# Altium footprint library GPSDevice.PcbLib: 30 footprints (part 1 of 2)
Each footprint in its own frame and in the unit in brackets; x right, y up, seen from the top. Pads: shape width x height; smd on the part's side, far side on the other; paste and mask are expansions set on the pad; w line width, h text height; cw(c..) or ccw(c..) is an arc to the next point about the centre after c.
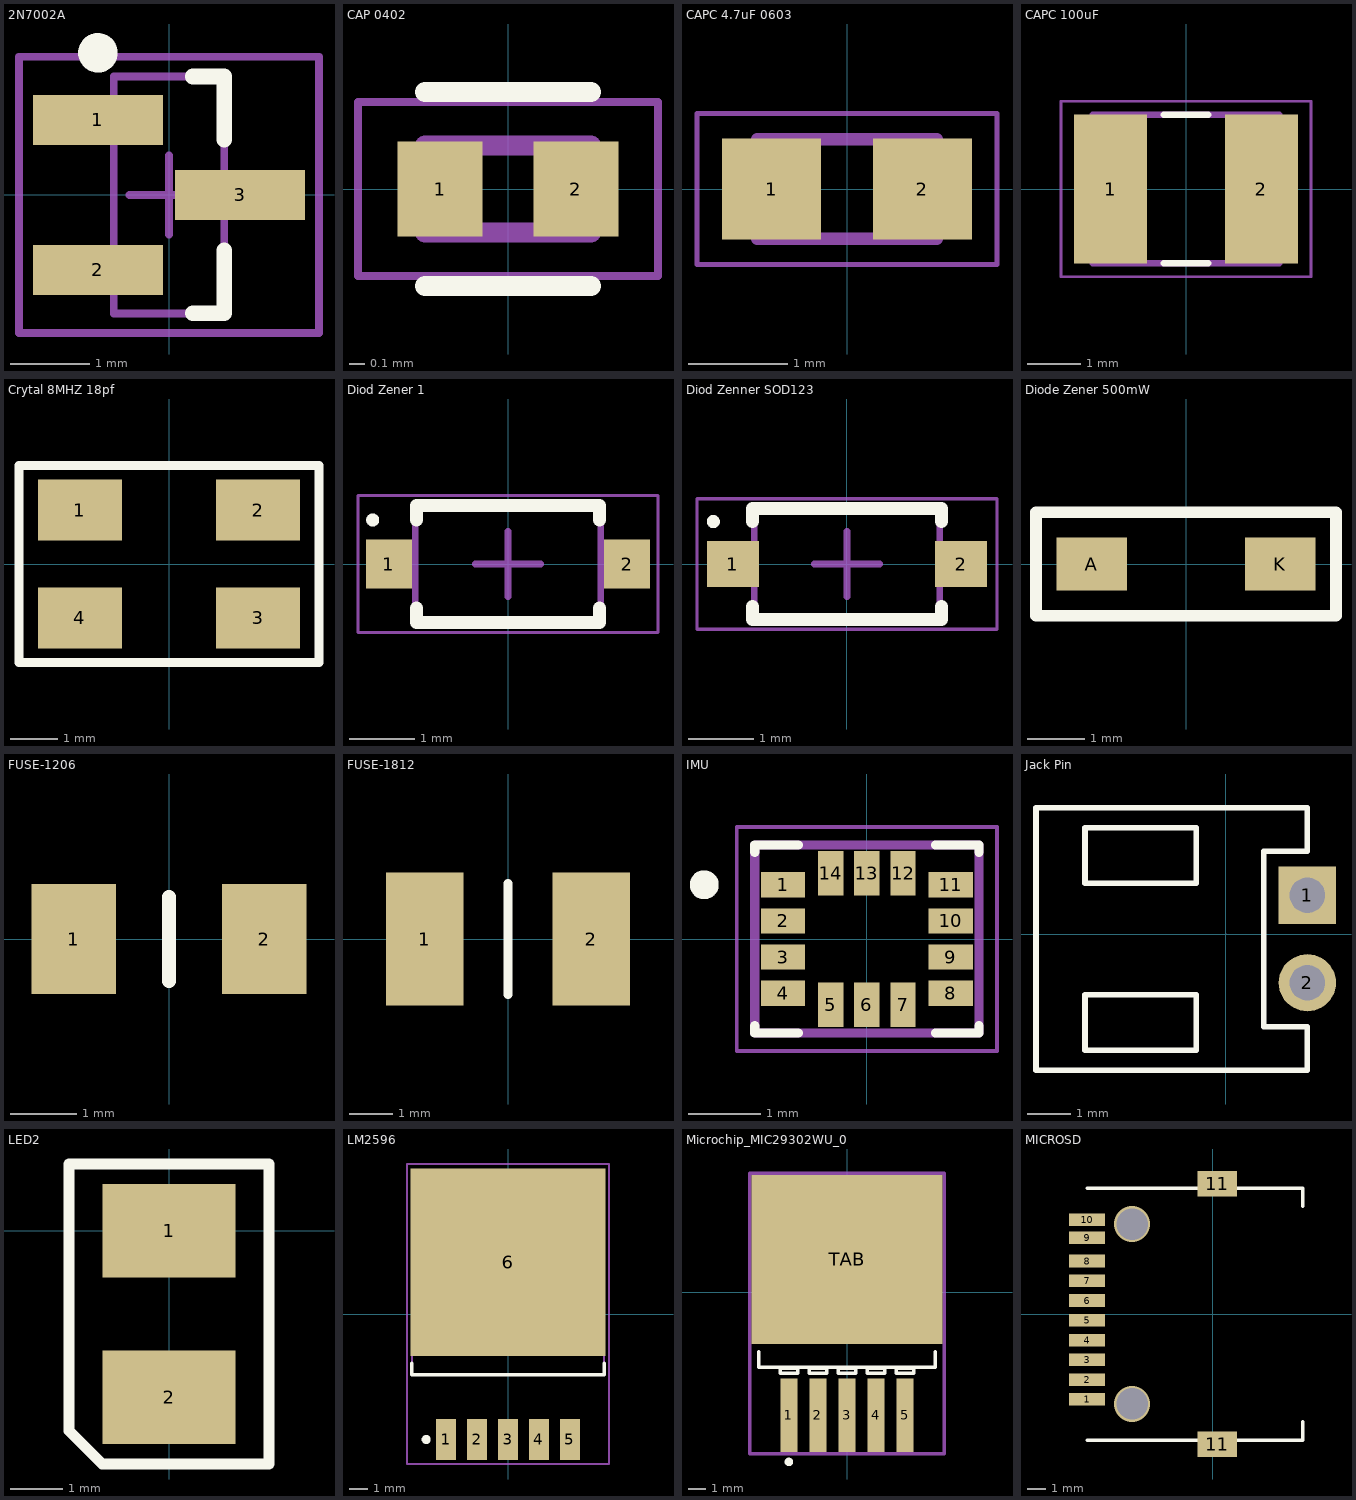
[diagram p0: the footprints below, top view; thin cyan lines are the x and y axes]

## 2N7002A [mm] "SOT23, 3-Leads, Body 3.0x2.5mm (max), Pitch 0.95mm, IPC Medium Density"
height 1.1
pads (3):
  rect 1.651x0.635 smd: 1(-0.9,0.95) 2(-0.9,-0.95) 3(0.9,0)
Top Overlay:
  circle w0.25: c-0.9,1.8 r0.125
  lines w0.2: 0.3,-1.5 0.7,-1.5 0.7,-0.7 ; 0.3,1.5 0.7,1.5 0.7,0.7
Mechanical 13:
  lines w0.1: -0.7,-1.5 0.7,-1.5 0.7,1.5 -0.7,1.5 -0.7,-1.5
Mechanical 15:
  lines w0.1: -0.5,0 0.5,0 ; 0,-0.5 0,0.5 ; -1.9,-1.75 1.9,-1.75 1.9,1.75 -1.9,1.75 -1.9,-1.75
3D body: height 1.1, standoff 0.05, extent -0.7,-1.5 0.7,1.5

## CAP 0402 [mm]
pads (2):
  rect 0.54x0.6 smd: 1(-0.43,0) 2(0.43,0)
Top Overlay:
  lines w0.127: -0.525,-0.615 0.525,-0.615 ; -0.525,0.615 0.525,0.615
Mechanical 13:
  lines w0.127: -0.525,-0.275 -0.525,0.275 0.525,0.275 0.525,-0.275 -0.525,-0.275
Mechanical 15:
  lines w0.05: -0.95,-0.55 -0.95,0.55 0.95,0.55 0.95,-0.55 -0.95,-0.55

## CAPC 4.7uF 0603 [mm]
pads (2):
  rect 1x1.02 smd: 1(-0.759,0) 2(0.759,0)
Mechanical 13:
  lines w0.127: -0.9,-0.5 -0.9,0.5 0.9,0.5 0.9,-0.5 -0.9,-0.5
Mechanical 15:
  lines w0.05: -1.508,-0.758 -1.508,0.758 1.508,0.758 1.508,-0.758 -1.508,-0.758

## CAPC 100uF [mm]
pads (2):
  rect 1.37x2.81 smd: 1(-1.42,0) 2(1.42,0)
Top Overlay:
  lines w0.127: -0.42,-1.4 0.42,-1.4 ; -0.42,1.4 0.42,1.4
Mechanical 13:
  lines w0.127: -1.75,-1.4 1.75,-1.4 1.75,1.4 -1.75,1.4 -1.75,-1.4
Mechanical 15:
  lines w0.05: -2.355,-1.655 2.355,-1.655 2.355,1.655 -2.355,1.655 -2.355,-1.655

## Crytal 8MHZ 18pf [mm]
pads (4):
  rect 1.8x1.3 smd: 1(-1.9,1.15) 2(1.9,1.15) 3(1.9,-1.15) 4(-1.9,-1.15)
Top Overlay:
  lines w0.2: -3.2,-2.1 3.2,-2.1 3.2,2.1 -3.2,2.1 -3.2,-2.1
3D body "oscillator_gk366-un-ap-0_75m-3_3cm.stp": height 2.01, standoff 0.01, extent -3.6,-2.6 3.6,2.6

## Diod Zener 1 [mm] "SOD-123, 2-Leads, 500mW, 5.1V"
height 1.35
pads (2):
  rect 0.7x0.75 smd: 1(-1.825,0) 2(1.825,0)
Top Overlay:
  circle w0.1: c-2.075,0.675 r0.05
  lines w0.2: -1.4,-0.675 -1.4,-0.9 1.4,-0.9 1.4,-0.675 ; -1.4,0.675 -1.4,0.9 1.4,0.9 1.4,0.675
Mechanical 13:
  lines w0.1: -1.42,-0.9 -1.42,0.9 1.42,0.9 1.42,-0.9 -1.42,-0.9
Mechanical 15:
  lines w0.05: -2.3,-1.05 -2.3,1.05 2.3,1.05 2.3,-1.05 -2.3,-1.05
  lines w0.1: -0.5,0 0.5,0 ; 0,-0.5 0,0.5
3D body: height 1.35, standoff 0, extent -1.42,-0.9 1.42,0.9

## Diod Zenner SOD123 [mm] "SODFL, 2-Leads, Body 1.55x3.70mm, IPC Medium Density"
height 1.35
pads (2):
  rect 0.8x0.7 smd: 1(-1.75,0) 2(1.75,0)
Top Overlay:
  circle w0.1: c-2.05,0.65 r0.05
  lines w0.2: -1.45,-0.65 -1.45,-0.85 1.45,-0.85 1.45,-0.65 ; -1.45,0.65 -1.45,0.85 1.45,0.85 1.45,0.65
Mechanical 13:
  lines w0.1: -1.425,-0.85 1.425,-0.85 1.425,0.85 -1.425,0.85 -1.425,-0.85
Mechanical 15:
  lines w0.05: -2.3,-1 2.3,-1 2.3,1 -2.3,1 -2.3,-1
  lines w0.1: -0.5,0 0.5,0 ; 0,-0.5 0,0.5
3D body: height 1.35, standoff 0, extent -1.425,-0.85 1.425,0.85

## Diode Zener 500mW [mm]
pads (2):
  rect 1.22x0.91 smd: A(-1.635,0) K(1.635,0)
Top Overlay:
  lines w0.2: -2.6,-0.9 2.6,-0.9 2.6,0.9 -2.6,0.9 -2.6,-0.9

## FUSE-1206 [mil]
pads (2):
  rect 50x65 smd: 1(-56.25,0) 2(56.25,0)
Top Overlay:
  lines w8: 0,-25 0,25

## FUSE-1812 [mil]
pads (2):
  rect 70x120 smd: 1(-75,0) 2(75,0)
Top Overlay:
  lines w8: 0,-50 0,50

## IMU [mm] "IMU ACCEL/GYRO I2C/SPI 14LGA"
pads (14):
  rect 0.61x0.35 smd: 1(-1.16,0.75) 2(-1.16,0.25) 3(-1.16,-0.25) 4(-1.16,-0.75) 8(1.16,-0.75) 9(1.16,-0.25) 10(1.16,0.25) 11(1.16,0.75)
  rect 0.35x0.61 smd: 5(-0.5,-0.91) 6(0,-0.91) 7(0.5,-0.91) 12(0.5,0.91) 13(0,0.91) 14(-0.5,0.91)
Top Overlay:
  circle w0.2: c-2.25,0.75 r0.1
  lines w0.127: -1.55,-1.2 -1.55,-1.3 -0.95,-1.3 ; -1.55,1.2 -1.55,1.3 -0.95,1.3 ; 0.95,-1.3 1.55,-1.3 1.55,-1.2 ; 0.95,1.3 1.55,1.3 1.55,1.2
Mechanical 13:
  lines w0.127: -1.55,-1.3 -1.55,1.3 1.55,1.3 1.55,-1.3 -1.55,-1.3
Mechanical 15:
  lines w0.05: -1.8,-1.55 -1.8,1.55 1.8,1.55 1.8,-1.55 -1.8,-1.55

## Jack Pin [mil]
pads (2):
  rect 51.5x51.5 hole 31.5 slot 31.7 at 0 deg: 1(73.59,34.98)
  round 51.5 hole 31.5 slot 31.7 at 0 deg: 2(73.59,-43.76)
Top Overlay:
  lines w5: -170.5,-122.5 -170.5,113.72 73.59,113.72 73.59,74.35 34.22,74.35 34.22,-83.13 73.59,-83.13 73.59,-122.5 -170.5,-122.5 ; -126.41,-104.39 -126.41,-54.39 -26.41,-54.39 -26.41,-104.39 -126.41,-104.39 ; -126.41,45.61 -126.41,95.61 -26.41,95.61 -26.41,45.61 -126.41,45.61
Mechanical 15:
  lines w0.1: 0.66,0.6 0.68,0.62

## LED2 [mil]
pads (2):
  rect 100x70 smd: 1(0,0) 2(0,-125)
Top Overlay:
  lines w8: -75,-150 -75,50 75,50 75,-175 -50,-175 -75,-150

## LM2596 [mm]
pads (6):
  rect 1.1x2.25 smd: 1(-3.4,-6.9) 2(-1.7,-6.9) 3(0,-6.9) 4(1.7,-6.9) 5(3.4,-6.9)
  rect 10.75x10.3 smd: 6(0,2.85)
Top Overlay:
  circle w0.25: c-4.5,-6.9 r0.125
  lines w0.2: -5.3,-2.7 -5.3,-3.35 5.3,-3.35 5.3,-2.7
Mechanical 13:
  lines w0.1: -5.275,-3.35 -5.275,6.05 5.275,6.05 5.275,-3.35 -5.275,-3.35
Mechanical 15:
  lines w0.1: -0.5,0 0.5,0 ; 0,-0.5 0,0.5 ; -5.55,-8.25 -5.55,8.25 5.55,8.25 5.55,-8.25 -5.55,-8.25
3D body: height 4.57, standoff 0, extent -5.275,-3.35 5.275,6.05

## Microchip_MIC29302WU_0 [mm]
pads (6):
  rect 1.02x4.32 smd paste+0 mask+0: 1(-3.4,-7.219) 2(-1.7,-7.219) 3(0,-7.219) 4(1.7,-7.219) 5(3.4,-7.219)
  rect 11.18x9.91 smd paste+0 mask+0: TAB(0,1.926)
Top Overlay:
  circle w0.25: c-3.407,-9.944 r0.125
  lines w0.2: -5.182,-4.39 5.182,-4.39 ; -5.18,-4.39 -5.18,-3.5 ; 5.182,-4.39 5.182,-3.5 ; -3.91,-4.75 -3.91,-4.45 -2.89,-4.45 -2.89,-4.75 -3.91,-4.75 ; -2.21,-4.75 -2.21,-4.45 -1.19,-4.45 -1.19,-4.75 -2.21,-4.75 ; -0.51,-4.75 -0.51,-4.45 0.51,-4.45 0.51,-4.75 -0.51,-4.75 ; 1.19,-4.75 1.19,-4.45 2.21,-4.45 2.21,-4.75 1.19,-4.75 ; 2.89,-4.75 2.89,-4.45 3.91,-4.45 3.91,-4.75 2.89,-4.75
Mechanical 15:
  lines w0.1: -1.707,0 1.707,0 ; 0,-1.707 0,1.707
  lines w0.2: -5.69,-9.479 -5.69,6.981 5.69,6.981 5.69,-9.479 -5.69,-9.479
3D body "3dmodel.step": height 0.25, standoff 0, extent -5.69,-9.479 5.69,6.981

## MICROSD [mm]
pads (12):
  rect 2x0.7 smd: 1(-7,-4.75) 2(-7,-3.65) 3(-7,-2.55) 4(-7,-1.45) 5(-7,-0.35) 6(-7,0.75) 7(-7,1.85) 8(-7,2.95) 9(-7,4.25) 10(-7,5.25)
  rect 2.2x1.4 smd: 11(0.25,-7.25) 11(0.25,7.25)
via -4.5,-5 diameter 2 hole 1.75
via -4.5,5 diameter 2 hole 1.75
Top Overlay:
  lines w0.2: -7,-7.025 5,-7.025 5,-6 ; -7,7 5,7 5,6